# EAGLE library part STM32F030 (library STM32F0xxx)
Name des Bauteiles: -->STM32F030F4P6 Daten:16KB Flash /TSSOP20 /-40..85°C Artikelnummer:#045465 Datenblatt:Siehe Hesch Suche ! __________________________________________ generated by Eagle Description Tool am : 14.02.2017 07:25:50 erstellt von: Hm
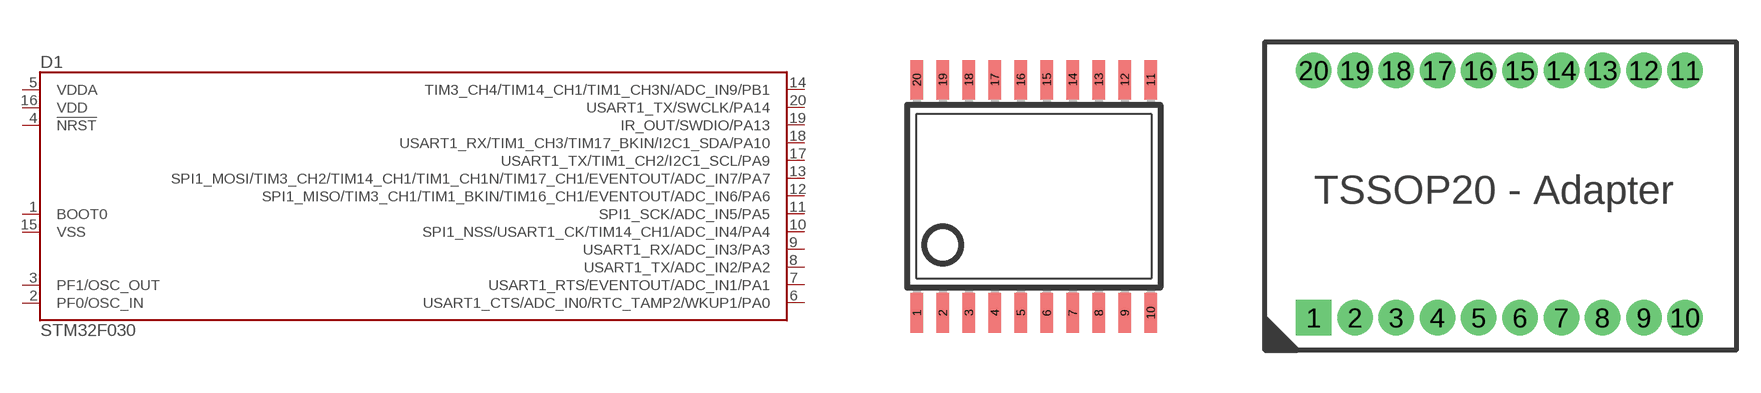
[diagram p0: symbol with the pads of TSSOP-20; footprints TSSOP-20, TSSOP_ADAPTER]

Designator prefix D1

## STM32F030F4P6  [TSSOP-20]
1  BOOT0
2  PF0/OSC_IN
3  PF1/OSC_OUT
4  !NRST!
5  VDDA
6  USART1_CTS/ADC_IN0/RTC_TAMP2/WKUP1/PA0
7  USART1_RTS/EVENTOUT/ADC_IN1/PA1
8  USART1_TX/ADC_IN2/PA2
9  USART1_RX/ADC_IN3/PA3
10  SPI1_NSS/USART1_CK/TIM14_CH1/ADC_IN4/PA4
11  SPI1_SCK/ADC_IN5/PA5
12  SPI1_MISO/TIM3_CH1/TIM1_BKIN/TIM16_CH1/EVENTOUT/ADC_IN6/PA6
13  SPI1_MOSI/TIM3_CH2/TIM14_CH1/TIM1_CH1N/TIM17_CH1/EVENTOUT/ADC_IN7/PA7
14  TIM3_CH4/TIM14_CH1/TIM1_CH3N/ADC_IN9/PB1
15  VSS
16  VDD
17  USART1_TX/TIM1_CH2/I2C1_SCL/PA9
18  USART1_RX/TIM1_CH3/TIM17_BKIN/I2C1_SDA/PA10
19  IR_OUT/SWDIO/PA13
20  USART1_TX/SWCLK/PA14

## STM32F030THT  [TSSOP_ADAPTER]
Pads as for TSSOP-20

## Footprint TSSOP-20 (pad centres in mm)
smd 0.305 x 0.991: 1 -2.925,-2.918; 2 -2.275,-2.918; 3 -1.625,-2.918; 4 -0.975,-2.918; 5 -0.325,-2.918; 6 0.325,-2.918; 7 0.975,-2.918; 8 1.625,-2.918; 9 2.275,-2.918; 10 2.925,-2.918; 11 2.925,2.918; 12 2.275,2.918; 13 1.625,2.918; 14 0.975,2.918; 15 0.325,2.918; 16 -0.325,2.918; 17 -0.975,2.918; 18 -1.625,2.918; 19 -2.275,2.918; 20 -2.925,2.918

## Footprint TSSOP_ADAPTER (pad centres in mm)
drill 1 pad 2.184 square: 1 -10.16,-7.62
drill 1 pad 2.184: 2 -7.62,-7.62; 3 -5.08,-7.62; 4 -2.54,-7.62; 5 0,-7.62; 6 2.54,-7.62; 7 5.08,-7.62; 8 7.62,-7.62; 9 10.16,-7.62; 10 12.7,-7.62; 11 12.7,7.62; 12 10.16,7.62; 13 7.62,7.62; 14 5.08,7.62; 15 2.54,7.62; 16 0,7.62; 17 -2.54,7.62; 18 -5.08,7.62; 19 -7.62,7.62; 20 -10.16,7.62